# Altium integrated library PIC18F2450.IntLib: 1 symbol
Pins are listed as number, name and electrical type; pins without a type are passive.

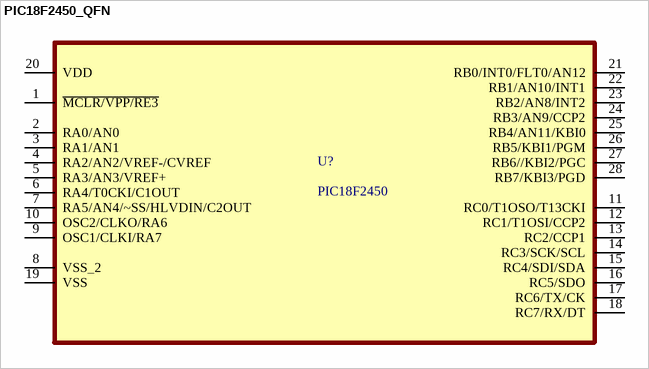
[diagram p0: symbol PIC18F2450_QFN]

## PIC18F2450_QFN
designator U?, comment PIC18F2450
PIC series Microcontroller IC 8-Bit 48MHz 16KB 28-QFN; Package: None; Price: None; Value: PIC18F2450; MP: PIC18F2450; Availability: Unavailable
pins: 1 ~{MCLR/VPP/RE3}, 2 RA0/AN0, 3 RA1/AN1, 4 RA2/AN2/VREF-/CVREF, 5 RA3/AN3/VREF+, 6 RA4/T0CKI/C1OUT, 7 RA5/AN4/~SS/HLVDIN/C2OUT, 8 VSS_2, 9 OSC1/CLKI/RA7, 10 OSC2/CLKO/RA6, 11 RC0/T1OSO/T13CKI, 12 RC1/T1OSI/CCP2, 13 RC2/CCP1, 14 RC3/SCK/SCL, 15 RC4/SDI/SDA, 16 RC5/SDO, 17 RC6/TX/CK, 18 RC7/RX/DT, 19 VSS, 20 VDD, 21 RB0/INT0/FLT0/AN12, 22 RB1/AN10/INT1, 23 RB2/AN8/INT2, 24 RB3/AN9/CCP2, 25 RB4/AN11/KBI0, 26 RB5/KBI1/PGM, 27 RB6//KBI2/PGC, 28 RB7/KBI3/PGD